# EAGLE library part ST-LSM9DS1TR (library gclueSensor)
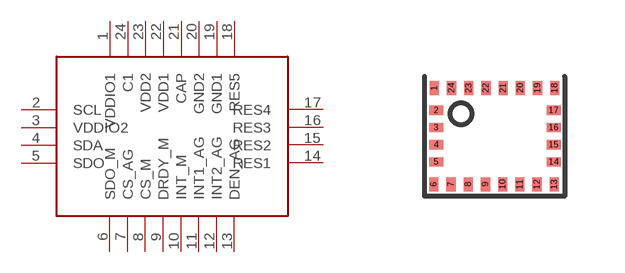
[diagram p9: symbol with the pads of ST-LSM9DS1TR; footprint ST-LSM9DS1TR]

Designator prefix -

## ST-LSM9DS1TR  [ST-LSM9DS1TR]
1  VDDIO1
2  SCL
3  VDDIO2
4  SDA
5  SDO
6  SDO_M
7  CS_AG
8  CS_M
9  DRDY_M
10  INT_M
11  INT1_AG
12  INT2_AG
13  DEN_AG
14  RES1
15  RES2
16  RES3
17  RES4
18  RES5
19  GND1
20  GND2
21  CAP
22  VDD1
23  VDD2
24  C1

## Footprint ST-LSM9DS1TR (pad centres in mm)
smd 0.23 x 0.35: 1 -1.505,1.21; 6 -1.517,-1.202; 7 -1.087,-1.202; 8 -0.657,-1.202; 9 -0.227,-1.202; 10 0.203,-1.202; 11 0.633,-1.202; 12 1.063,-1.202; 13 1.493,-1.202; 18 1.505,1.21; 19 1.075,1.21; 20 0.645,1.21; 21 0.215,1.21; 22 -0.215,1.21; 23 -0.645,1.21; 24 -1.075,1.21
smd 0.35 x 0.23: 2 -1.46,0.648; 3 -1.46,0.218; 4 -1.46,-0.212; 5 -1.46,-0.642; 14 1.478,-0.642; 15 1.478,-0.212; 16 1.478,0.218; 17 1.478,0.648